# Altium schematic symbol library Inductors (SPM).SchLib: 3 symbols
Pins are listed as number, name and electrical type; pins without a type are passive.

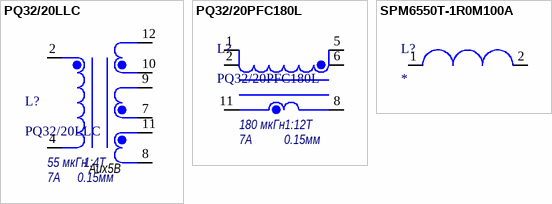
[diagram p0: symbols PQ32/20LLC to SPM6550T-1R0M100A]

## PQ32/20LLC
designator L?  value 55 мкГн  ValueIII: 0.15мм  ValueII: 1:4T  ValueI: 7А
Tolerance: ±20%
footprint PQ32/20 (Ferrite and bobbin)
pins: 2, 4, 7, 8, 9, 10, 11, 12
text: Aux5В

## PQ32/20PFC180L
designator L?  value 180 мкГн  ValueIII: 0.15мм  ValueII: 1:12T  ValueI: 7А
Tolerance: ±20%
footprint PQ32/20 (Ferrite and bobbin)
pins: 1, 2, 5, 6, 8, 11

## SPM6550T-1R0M100A
designator L?
Value: 1.09 uH; Tolerance: ±20%; Saturation current: 15.3A; Temperature range: –40 to +125 °C
pins: 1, 2